# Altium schematic symbol library ic-logic.SchLib: 24 symbols
Pins are listed as number, name and electrical type; pins without a type are passive.

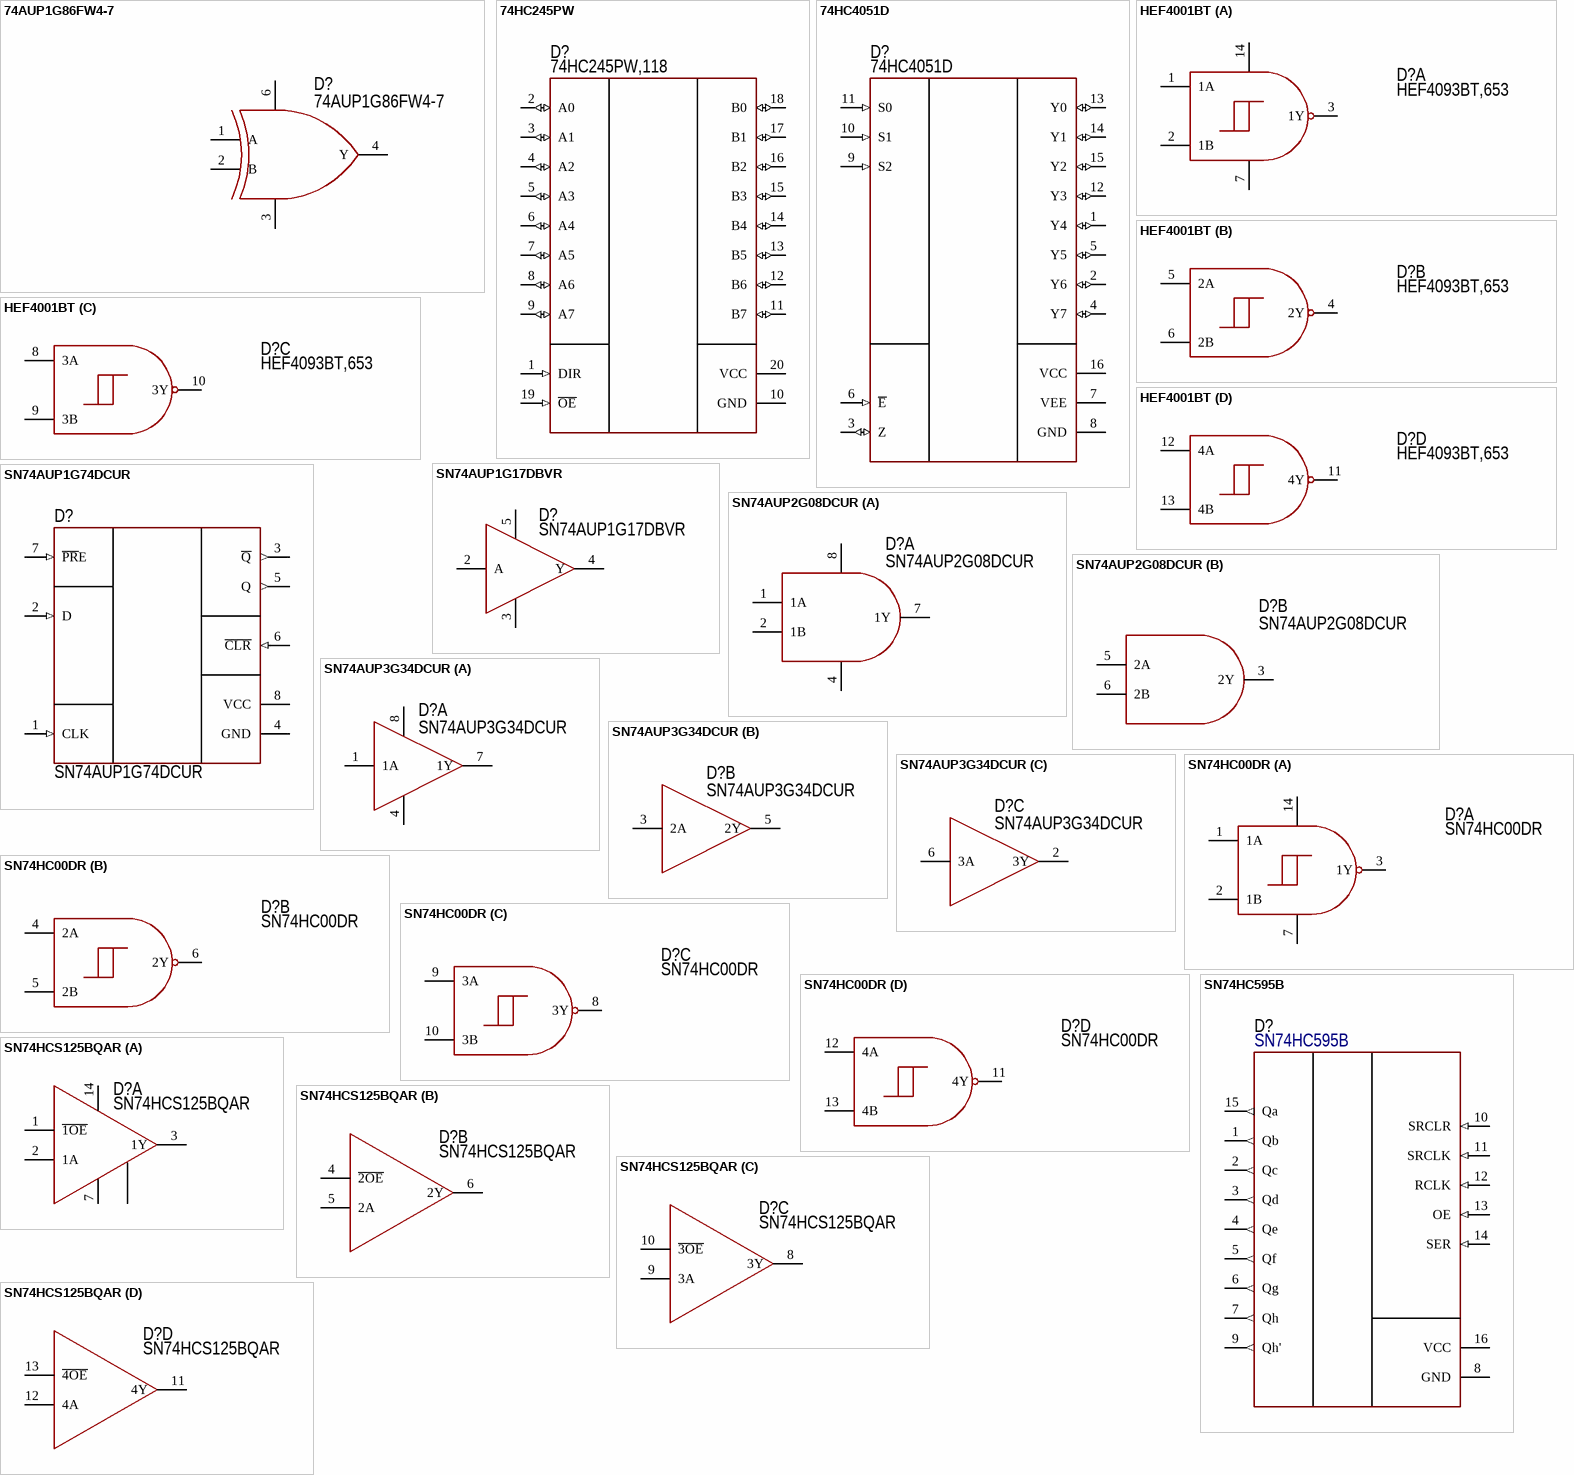
[diagram p0: symbols 74AUP1G86FW4-7 to SN74HCS125BQAR]

## 74AUP1G86FW4-7
designator D?  PartNumber: 74AUP1G86FW4-7
XOR; Manufacturer: Diodes Incorporated; ValueManufacturerPartNumber: IC logic XOR, 0.8...3.6V, -40...+125°C, X2-DFN1010-6; Supply: 0.8...3.6V; HelpURL: https://www.lcsc.com/datasheet/lcsc_datasheet_2304140030_Diodes-Incorporated-74AUP1G86FW4-7_C362115.pdf; Package: X2-DFN1010-6; ComponentType: IC logic XOR; Temperature: -40...+125°C
footprint 6-X2-DFN1010-6 (pitch 0.35 mm)
pins: 1 A, 2 B, 3, 4 Y, 6

## 74HC245PW
designator D?  PartNumber: 74HC245PW,118
Buffer; Manufacturer: Nexperia; ValueManufacturerPartNumber: IC logic buffer, 2...6V, -40...+125°C, 20-TSSOP; Supply: 2...6V; HelpURL: https://www.digikey.com/product-detail/en/nexperia-usa-inc/74HC245PW118/1727-4296-1-ND/2209913; Package: 20-TSSOP; ComponentType: IC logic buffer; Temperature: -40...+125°C
footprint 20-TSSOP (pitch 0.65 mm)
pins: 1 DIR (in), 2 A0 (io), 3 A1 (io), 4 A2 (io), 5 A3 (io), 6 A4 (io), 7 A5 (io), 8 A6 (io), 9 A7 (io), 10 GND, 11 B7 (io), 12 B6 (io), 13 B5 (io), 14 B4 (io), 15 B3 (io), 16 B2 (io), 17 B1 (io), 18 B0 (io), 19 ~{OE} (in), 20 VCC

## 74HC4051D
designator D?  PartNumber: 74HC4051D
8-channel analog multiplexer/demultiplexer; Manufacturer: Nexperia; ValueManufacturerPartNumber: IC analog multiplexer/demultiplexer, 2...5.5V, -40...+125°C, 16-SO; Supply: 2...5.5V; HelpURL: https://www.nexperia.com/products/analog-logic-ics/i-o-expansion-logic/analog-switches/74HC4051D.html; Package: 16-SO; ComponentType: IC analog multiplexer/demultiplexer; Temperature: -40...+125°C
footprint 16-SO (pitch 1.27 mm)
pins: 1 Y4 (io), 2 Y6 (io), 3 Z (io), 4 Y7 (io), 5 Y5 (io), 6 ~{E} (in), 7 VEE (power), 8 GND, 9 S2 (in), 10 S1 (in), 11 S0 (in), 12 Y3 (io), 13 Y0 (io), 14 Y1 (io), 15 Y2 (io), 16 VCC (power)

## HEF4001BT
designator D?  PartNumber: HEF4093BT,653
NAND Schmitt Trigger; Manufacturer: Nexperia USA Inc.; ValueManufacturerPartNumber: IC logic NAND, 3...15V, -40...+125°C, 14-SOIC; Supply: 3...15V; HelpURL: https://www.digikey.com/en/products/detail/nexperia-usa-inc/HEF4093BT653/763309?s=N4IgTCBcDaIBIFEBiAWADATgMwCEAqANAGwCsWIAugL5A; Package: 14-SOIC; ComponentType: IC logic NAND; Temperature: -40...+125°C
footprint 14-SOIC (pitch 1.27 mm)
part A pins: 1 1A, 2 1B, 3 1Y, 7 (power), 14 (power)
part B pins: 4 2Y, 5 2A, 6 2B
part C pins: 8 3A, 9 3B, 10 3Y
part D pins: 11 4Y, 12 4A, 13 4B

## SN74AUP1G17DBVR
designator D?  PartNumber: SN74AUP1G17DBVR
Schmitt trigger; Manufacturer: Texas Instruments; ValueManufacturerPartNumber: IC Schmitt trigger, 0.8...3.6V, -40...+85°C, SOT23-6; Supply: 0.8...3.6V; HelpURL: https://www.digikey.com/product-detail/en/texas-instruments/SN74AUP1G17DBVR/296-19077-1-ND/864308; Package: SOT23-6; ComponentType: IC Schmitt trigger; Temperature: -40...+85°C
footprint SOT23-5 (pitch 0.95 mm)
pins: 2 A, 3, 4 Y, 5

## SN74AUP1G74DCUR
designator D?  PartNumber: SN74AUP1G74DCUR
D-trigger; Manufacturer: Texas Instruments; ValueManufacturerPartNumber: ICtrigger D-type, 0.8...3.6V, -40...+85°C, 8-VSSOP; Supply: 0.8...3.6V; HelpURL: https://www.digikey.com/product-detail/en/texas-instruments/SN74AUP1G74DCUR/296-19761-1-ND/1091423; Package: 8-VSSOP; ComponentType: ICtrigger D-type; Temperature: -40...+85°C
footprint 8-VSSOP
pins: 1 CLK (in), 2 D (in), 3 ~{Q} (out), 4 GND, 5 Q (out), 6 ~{CLR} (in), 7 ~{PR}E (in), 8 VCC

## SN74AUP2G08DCUR
designator D?  PartNumber: SN74AUP2G08DCUR
AND; Manufacturer: Texas Instruments; ValueManufacturerPartNumber: IC logic AND, 0.8...3.6V, -40...+855°C, 8-VSSOP; Supply: 0.8...3.6V; HelpURL: https://www.digikey.com/product-detail/en/texas-instruments/SN74AUP2G08DCUR/296-32271-1-ND/3505517; Package: 8-VSSOP; ComponentType: IC logic AND; Temperature: -40...+855°C
footprint 8-VSSOP
part A pins: 1 1A, 2 1B, 4, 7 1Y, 8
part B pins: 3 2Y, 5 2A, 6 2B

## SN74AUP3G34DCUR
designator D?  PartNumber: SN74AUP3G34DCUR
Buffer; Manufacturer: Texas Instruments; ValueManufacturerPartNumber: IC logic buffer, 0.8...3.6V, -40...+85°C, 8-VSSOP; Supply: 0.8...3.6V; HelpURL: https://www.digikey.com/product-detail/en/texas-instruments/SN74AUP3G34DCUR/296-25595-1-ND/2202056; Package: 8-VSSOP; ComponentType: IC logic buffer; Temperature: -40...+85°C
footprint 8-VSSOP
part A pins: 1 1A, 4, 7 1Y, 8
part B pins: 3 2A, 5 2Y
part C pins: 2 3Y, 6 3A

## SN74HC00DR
designator D?  PartNumber: SN74HC00DR
NAND Schmitt Trigger 4-channel; Manufacturer: Texas Instruments; ValueManufacturerPartNumber: IC logic NAND, 2...6V, -40...+125°C, SOIC-14; Supply: 2...6V; HelpURL: https://www.ti.com/lit/ds/symlink/sn74hc00.pdf?HQS=dis-mous-null-mousermode-dsf-pf-null-wwe&ts=1685865976051&ref_url=https%253A%252F%252Fro.mouser.com%252F; Package: SOIC-14; ComponentType: IC logic NAND; Temperature: -40...+125°C
footprint 14-SOIC (pitch 1.27 mm)
part A pins: 1 1A, 2 1B, 3 1Y, 7 (power), 14 (power)
part B pins: 4 2A, 5 2B, 6 2Y
part C pins: 8 3Y, 9 3A, 10 3B
part D pins: 11 4Y, 12 4A, 13 4B

## SN74HC595B
designator D?  PartNumber: SN74HC595B
8-Bit Serial-In, Parallel-Out Shift Register; Manufacturer: Texas Instruments; ValueManufacturerPartNumber: Shift Register, 2...6V, -40...+125°C, 16-QFN; Supply: 2...6V; HelpURL: https://www.ti.com/lit/ds/symlink/sn74hc595b.pdf?HQS=dis-mous-null-mousermode-dsf-pf-null-wwe&ts=1693304326081&ref_url=https%253A%252F%252Feu.mouser.com%252F; Package: 16-QFN; ComponentType: Shift Register; Temperature: -40...+125°C
footprint 16-QFN (2.5x2.5) (2.5x2.5 mm, pitch 0.4 mm)
pins: 1 Qb (out), 2 Qc (out), 3 Qd (out), 4 Qe (out), 5 Qf (out), 6 Qg (out), 7 Qh (out), 8 GND, 9 Qh' (out), 10 SRCLR (in), 11 SRCLK (in), 12 RCLK (in), 13 OE (in), 14 SER (in), 15 Qa (out), 16 VCC

## SN74HCS125BQAR
designator D?  PartNumber: SN74HCS125BQAR
Buffer 3-state; Manufacturer: Texas Instruments; ValueManufacturerPartNumber: IC logic buffer, 2...6V, -40...+85°C, 14-WQFN; Supply: 2...6V; HelpURL: https://www.ti.com/lit/ds/symlink/sn74hcs125.pdf?ts=1723624649594&ref_url=https%253A%252F%252Fwww.ti.com%252Flogic-voltage-translation%252Fbuffers-drivers-transceivers%252Fnoninverting%252Fproducts.html; Package: 14-WQFN; ComponentType: IC logic buffer; Temperature: -40...+85°C
footprint 14-WQFN
part A pins: 0, 1 ~{1OE}, 2 1A, 3 1Y, 7, 14
part B pins: 4 ~{2OE}, 5 2A, 6 2Y
part C pins: 8 3Y, 9 3A, 10 ~{3OE}
part D pins: 11 4Y, 12 4A, 13 ~{4OE}

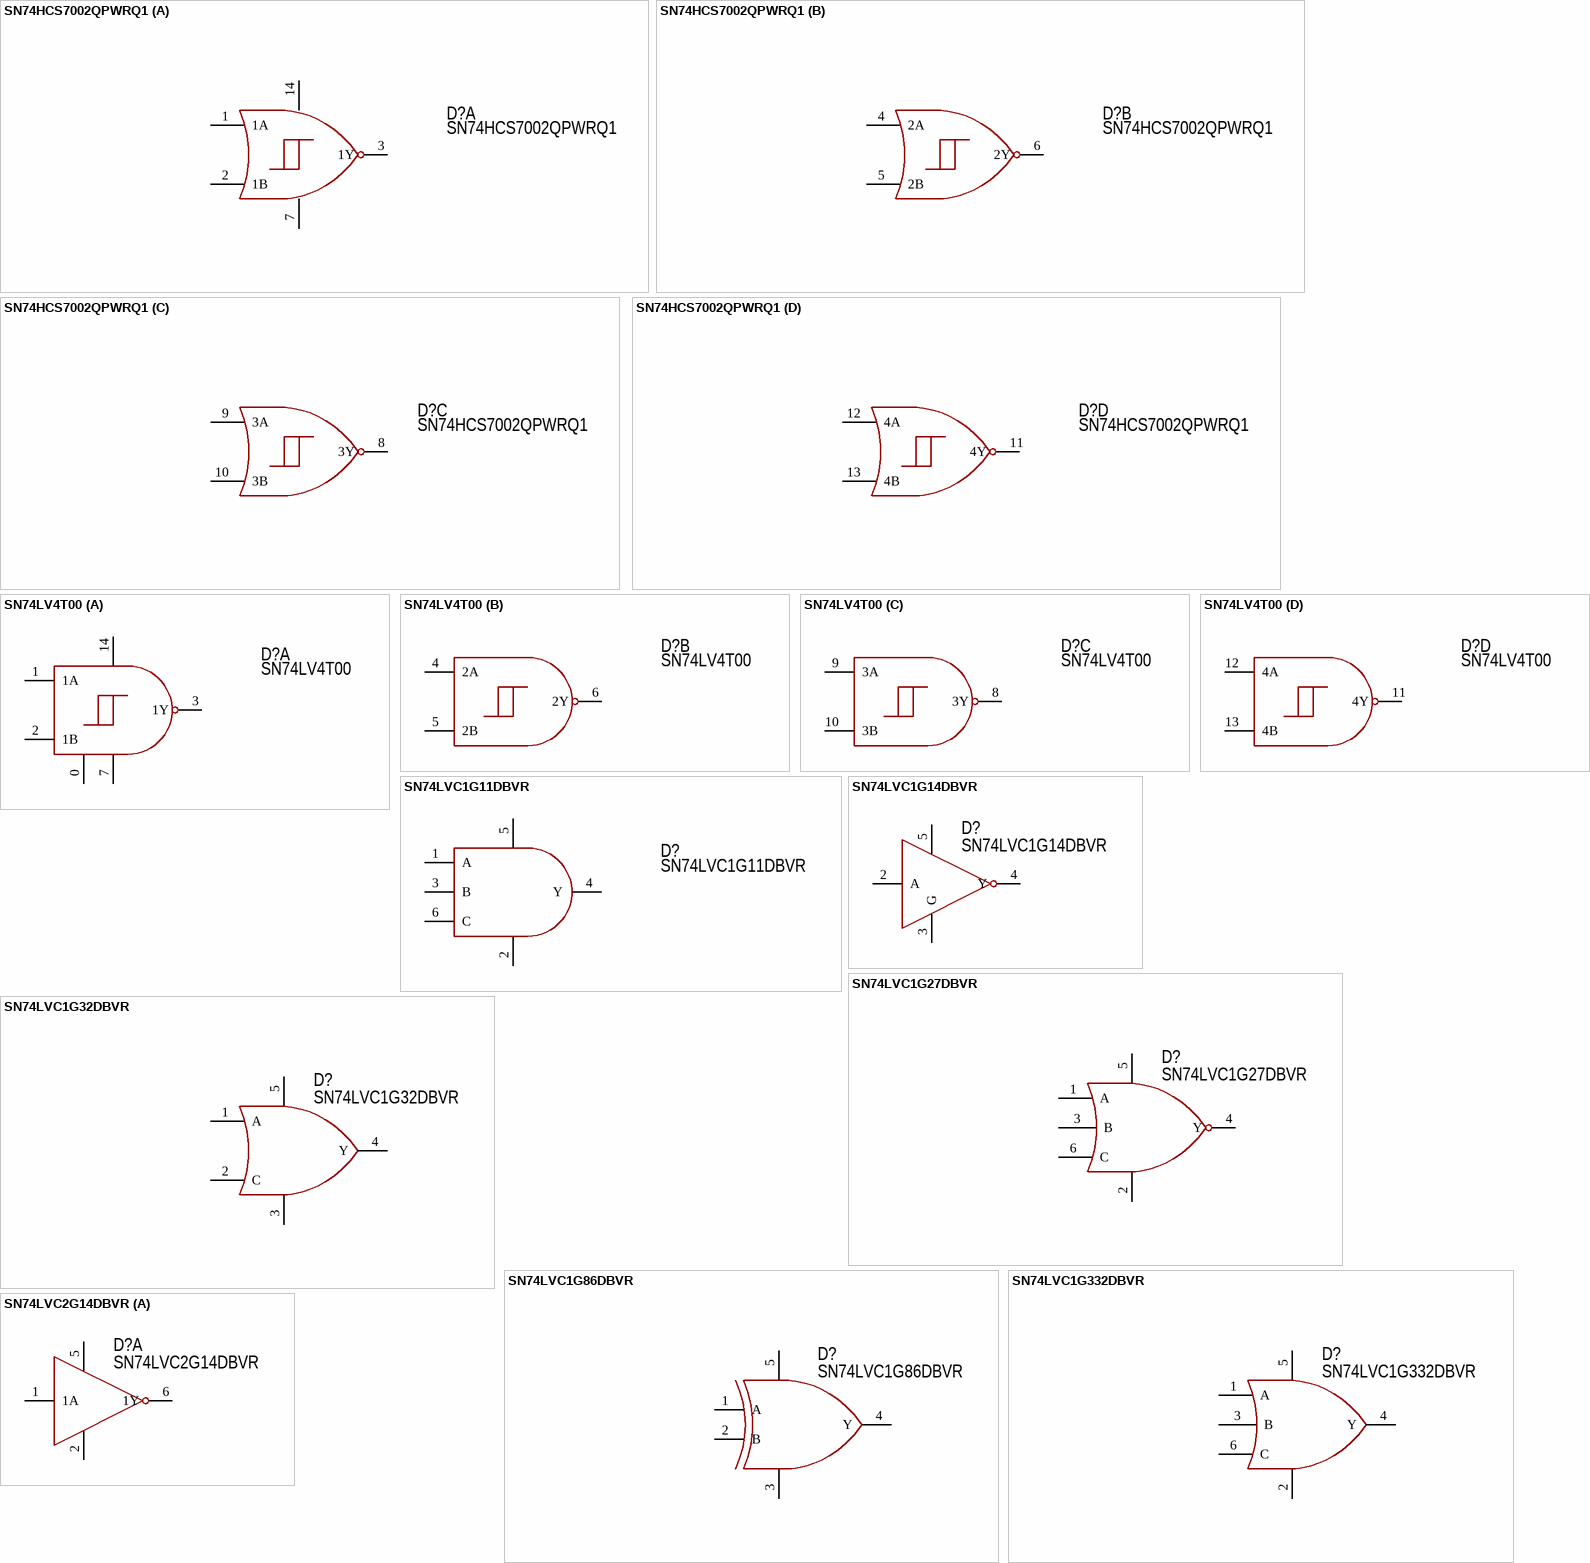
[diagram p1: symbols SN74HCS7002QPWRQ1 to SN74LVC2G14DBVR]

## SN74HCS7002QPWRQ1
designator D?  PartNumber: SN74HCS7002QPWRQ1
NOR; Manufacturer: Texas Instruments; ValueManufacturerPartNumber: IC logic NOR, 2...6V, -40...+125°C, 14-TSSOP; Supply: 2...6V; HelpURL: https://www.ti.com/lit/ds/symlink/sn74hcs7002-q1.pdf?HQS=dis-mous-null-mousermode-dsf-pf-null-wwe&ts=1675976497121&ref_url=https%253A%252F%252Fwww.mouser.ee%252F; Package: 14-TSSOP; ComponentType: IC logic NOR; Temperature: -40...+125°C
footprint 14-TSOP
part A pins: 1 1A, 2 1B, 3 1Y, 7 (power), 14 (power)
part B pins: 4 2A, 5 2B, 6 2Y
part C pins: 8 3Y, 9 3A, 10 3B
part D pins: 11 4Y, 12 4A, 13 4B

## SN74LV4T00
designator D?  PartNumber: SN74LV4T00
NAND Schmitt Trigger 4-channel; Manufacturer: Texas Instruments; ValueManufacturerPartNumber: IC logic NAND, 2...6V, -40...+125°C, WQFN-14; Supply: 2...6V; HelpURL: https://www.ti.com/lit/ds/symlink/sn74lv4t00-q1.pdf?HQS=dis-mous-null-mousermode-dsf-pf-null-wwe&ts=1696516028944&ref_url=https%253A%252F%252Feu.mouser.com%252F; Package: WQFN-14; ComponentType: IC logic NAND; Temperature: -40...+125°C
footprint 14-WQFN
part A pins: 0 (power), 1 1A, 2 1B, 3 1Y, 7 (power), 14 (power)
part B pins: 4 2A, 5 2B, 6 2Y
part C pins: 8 3Y, 9 3A, 10 3B
part D pins: 11 4Y, 12 4A, 13 4B

## SN74LVC1G11DBVR
designator D?  PartNumber: SN74LVC1G11DBVR
AND; Manufacturer: Texas Instruments; ValueManufacturerPartNumber: IC logic AND, 1.65...5.5V, -40...+125°C, SOT23-6; Supply: 1.65...5.5V; HelpURL: https://www.digikey.com/product-detail/en/texas-instruments/SN74LVC1G11DBVR/296-16810-1-ND/637183; Package: SOT23-6; ComponentType: IC logic AND; Temperature: -40...+125°C
footprint SOT23-6 (pitch 0.95 mm)
pins: 1 A, 2 (power), 3 B, 4 Y, 5 (power), 6 C

## SN74LVC1G14DBVR
designator D?  PartNumber: SN74LVC1G14DBVR
Inverter; Manufacturer: Texas Instruments; ValueManufacturerPartNumber: IC logic inverter, 1.65...5.5V, -40...+125°C, SOT23-5; Supply: 1.65...5.5V; HelpURL: https://www.lcsc.com/datasheet/lcsc_datasheet_1809251717_Texas-Instruments-SN74LVC1G14DBVR_C7835.pdf; Package: SOT23-5; ComponentType: IC logic inverter; Temperature: -40...+125°C
footprint SOT23-5 (pitch 0.95 mm)
pins: 2 A, 3 G, 4 Y, 5

## SN74LVC1G27DBVR
designator D?  PartNumber: SN74LVC1G27DBVR
NOR; Manufacturer: Texas Instruments; ValueManufacturerPartNumber: IC logic NOR, 1.65...5.5V, -40...+125°C, SOT23-6; Supply: 1.65...5.5V; HelpURL: https://www.digikey.com/product-detail/en/texas-instruments/SN74LVC1G27DBVR/296-17119-2-ND/664036; Package: SOT23-6; ComponentType: IC logic NOR; Temperature: -40...+125°C
footprint SOT23-6 (pitch 0.95 mm)
pins: 1 A, 2, 3 B, 4 Y, 5, 6 C

## SN74LVC1G32DBVR
designator D?  PartNumber: SN74LVC1G32DBVR
OR (2-input); Manufacturer: Texas Instruments; ValueManufacturerPartNumber: IC logic OR, 1.65...5.5V, -40...+125°C, SOT23-5; Supply: 1.65...5.5V; HelpURL: https://www.ti.com/lit/ds/symlink/sn74lvc1g32.pdf?HQS=dis-mous-null-mousermode-dsf-pf-null-wwe&ts=1686059704230&ref_url=https%253A%252F%252Fwww.mouser.com%252F; Package: SOT23-5; ComponentType: IC logic OR; Temperature: -40...+125°C
footprint SOT23-5 (pitch 0.95 mm)
pins: 1 A, 2 C, 3, 4 Y, 5

## SN74LVC1G86DBVR
designator D?  PartNumber: SN74LVC1G86DBVR
XOR; Manufacturer: Texas Instruments; ValueManufacturerPartNumber: IC logic XOR, 1.65...5.5V, -40...+125°C, SOT23-5; Supply: 1.65...5.5V; HelpURL: https://www.digikey.com/product-detail/en/texas-instruments/SN74LVC1G86DBVR/296-9853-1-ND/380077; Package: SOT23-5; ComponentType: IC logic XOR; Temperature: -40...+125°C
footprint SOT23-5 (pitch 0.95 mm)
pins: 1 A, 2 B, 3, 4 Y, 5

## SN74LVC1G332DBVR
designator D?  PartNumber: SN74LVC1G332DBVR
OR (3-input); Manufacturer: Texas Instruments; ValueManufacturerPartNumber: IC logic OR, 1.65...5.5V, -40...+125°C, SOT23-6; Supply: 1.65...5.5V; HelpURL: https://www.digikey.com/product-detail/en/texas-instruments/SN74LVC1G332DBVR/296-18587-1-ND/857355; Package: SOT23-6; ComponentType: IC logic OR; Temperature: -40...+125°C
footprint SOT23-6 (pitch 0.95 mm)
pins: 1 A, 2, 3 B, 4 Y, 5, 6 C

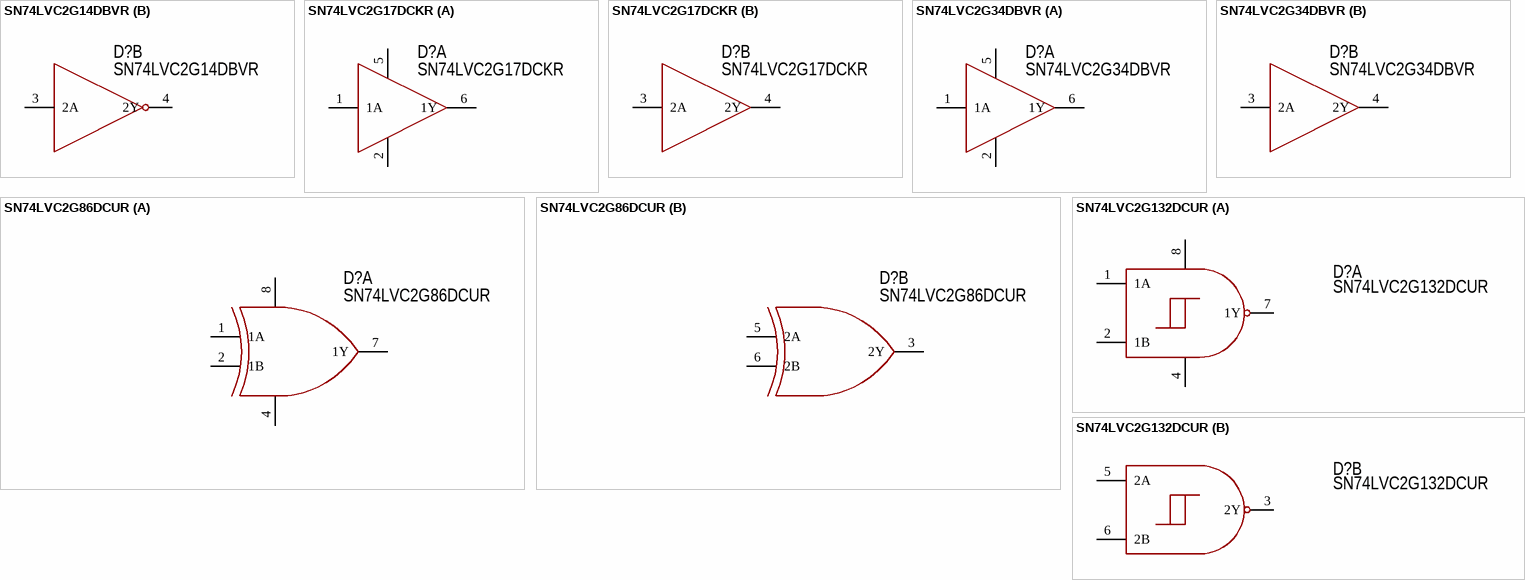
[diagram p2: symbols SN74LVC2G14DBVR to SN74LVC2G132DCUR]

## SN74LVC2G14DBVR
designator D?  PartNumber: SN74LVC2G14DBVR
Inverter; Manufacturer: Texas Instruments; ValueManufacturerPartNumber: IC logic inverter, 1.65...5.5V, -40...+125°C, SOT23-6; Supply: 1.65...5.5V; HelpURL: https://www.digikey.com/product-detail/en/texas-instruments/SN74LVC2G14DBVR/296-13010-1-ND/479730; Package: SOT23-6; ComponentType: IC logic inverter; Temperature: -40...+125°C
footprint SOT23-6 (pitch 0.95 mm)
part A pins: 1 1A, 2, 5, 6 1Y
part B pins: 3 2A, 4 2Y

## SN74LVC2G17DCKR
designator D?  PartNumber: SN74LVC2G17DCKR
Buffer; Manufacturer: Texas Instruments; ValueManufacturerPartNumber: IC logic buffer, 1.65...5.5V, -40...+125°C, SC-70-6; Supply: 1.65...5.5V; HelpURL: https://www.digikey.com/product-detail/en/texas-instruments/SN74LVC2G17DCKR/296-13013-1-ND/479736; Package: SC-70-6; ComponentType: IC logic buffer; Temperature: -40...+125°C
footprint SC70-6 (SOT23, 5-Leads, Body 2,90x2,80mm, Pitch 0,95mm, IPC Medium Density)
part A pins: 1 1A, 2, 5, 6 1Y
part B pins: 3 2A, 4 2Y

## SN74LVC2G34DBVR
designator D?  PartNumber: SN74LVC2G34DBVR
Buffer; Manufacturer: Texas Instruments; ValueManufacturerPartNumber: IC logic buffer, 1.65...5.5V, -40...+125°C, SOT23-6; Supply: 1.65...5.5V; HelpURL: https://www.digikey.com/product-detail/en/texas-instruments/SN74LVC2G34DBVR/296-13496-1-ND/486431; Package: SOT23-6; ComponentType: IC logic buffer; Temperature: -40...+125°C
footprint SOT23-6 (pitch 0.95 mm)
part A pins: 1 1A, 2, 5, 6 1Y
part B pins: 3 2A, 4 2Y

## SN74LVC2G86DCUR
designator D?  PartNumber: SN74LVC2G86DCUR
XOR (Dual input); Manufacturer: Texas Instruments; ValueManufacturerPartNumber: IC logic XOR, 1.65...5.5V, -40...+85°C, 8-VSSOP; Supply: 1.65...5.5V; HelpURL: https://www.ti.com/lit/ds/symlink/sn74lvc2g86.pdf?HQS=dis-mous-null-mousermode-dsf-pf-null-wwe&ts=1695248987664&ref_url=https%253A%252F%252Feu.mouser.com%252F; Package: 8-VSSOP; ComponentType: IC logic XOR; Temperature: -40...+85°C
footprint 8-VSSOP
part A pins: 1 1A, 2 1B, 4, 7 1Y, 8
part B pins: 3 2Y, 5 2A, 6 2B

## SN74LVC2G132DCUR
designator D?  PartNumber: SN74LVC2G132DCUR
NAND Schmitt Trigger; Manufacturer: Texas Instruments; ValueManufacturerPartNumber: IC logic NAND, 1.65...5.5V, -40...+125°C, VSSOP-8; Supply: 1.65...5.5V; HelpURL: https://www.digikey.com/en/products/detail/texas-instruments/SN74LVC2G132DCUR/863636?s=N4IgTCBcDaIMoDkDsAWAMgNQMJgOIEYBmMAESwFUAlEAXQF8g; Package: VSSOP-8; ComponentType: IC logic NAND; Temperature: -40...+125°C
footprint 8-VSSOP
part A pins: 1 1A, 2 1B, 4 (power), 7 1Y, 8 (power)
part B pins: 3 2Y, 5 2A, 6 2B